# Altium schematic symbol library USB_C_POWER.SchLib: 1 symbol
Pins are listed as number, name and electrical type; pins without a type are passive.

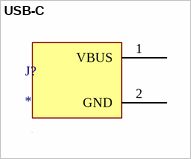
[diagram p0: symbol USB-C]

## USB-C
designator J?
pins: 1 VBUS, 2 GND